# Altium schematic symbol library Hall-Sensors.SchLib: 5 symbols
Pins are listed as number, name and electrical type; pins without a type are passive.

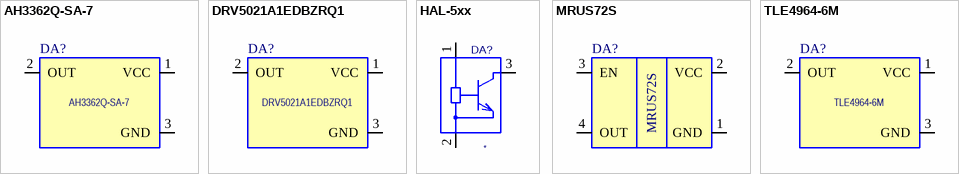
[diagram p0: symbols AH3362Q-SA-7 to TLE4964-6M]

## AH3362Q-SA-7
designator DA?
HIGH VOLTAGE HIGH SENSITIVITY / AUTOMOTIVE HALL EFFECT UNIPOLAR SWITCH
footprint SOT-23
pins: 1 VCC, 2 OUT, 3 GND

## DRV5021A1EDBZRQ1
designator DA?
Automotive, low-voltage, unipolar, digital-switch hall effect sensor
footprint SOT-23
pins: 1 VCC, 2 OUT, 3 GND

## HAL-5xx
designator DA?
Hall Effect Sensor; Value: *
footprint HAL-5xx (TO-92UA)
pins: 1, 2, 3

## MRUS72S
designator DA?
Hall sensor
footprint MINI FLP-4
pins: 1 GND, 2 VCC, 3 EN, 4 OUT

## TLE4964-6M
designator DA?
High Precision Automotive Unipolar Hall Effect Switch
footprint SOT-23
pins: 1 VCC, 2 OUT, 3 GND